# Altium schematic symbol library 1860196.SchLib: 1 symbol
Pins are listed as number, name and electrical type; pins without a type are passive.

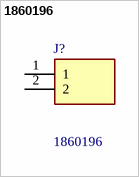
[diagram p0: symbol 1860196]

## 1860196
designator J?
PCB terminal block, nominal current: 17.5 A, rated voltage (III/2): 400 V, nominal cross section: 1.5 mm2, number of potentials: 2, number of rows: 1, number of positions per row: 2, product range: MKDSN 1,5, pitch: 5.08 mm,; Manufacturer_Name: Phoenix Contact; Geometry.Height: 10.15mm; Mouser Part Number: 651-1860196; Mouser Price/Stock: https://www.mouser.co.uk/ProductDetail/Phoenix-Contact/1860196?qs=WyAARYrbSnZ0H362tLIZlA%3D%3D; Manufacturer_Part_Number: 1860196; Datasheet Link: https://www.phoenixcontact.com/en-us/products/printed-circuit-board-terminal-mkdsn-15-2-508-bk-h1l-1860196?type=pdf
footprint 1860196
pins: 1, 2